# Altium footprint library micro-philips.PCBLIB: 60 footprints (part 3 of 5)
Each footprint in its own frame and in the unit in brackets; x right, y up, seen from the top. Pads: shape width x height; smd on the part's side, far side on the other; paste and mask are expansions set on the pad; w line width, h text height; cw(c..) or ccw(c..) is an arc to the next point about the centre after c.
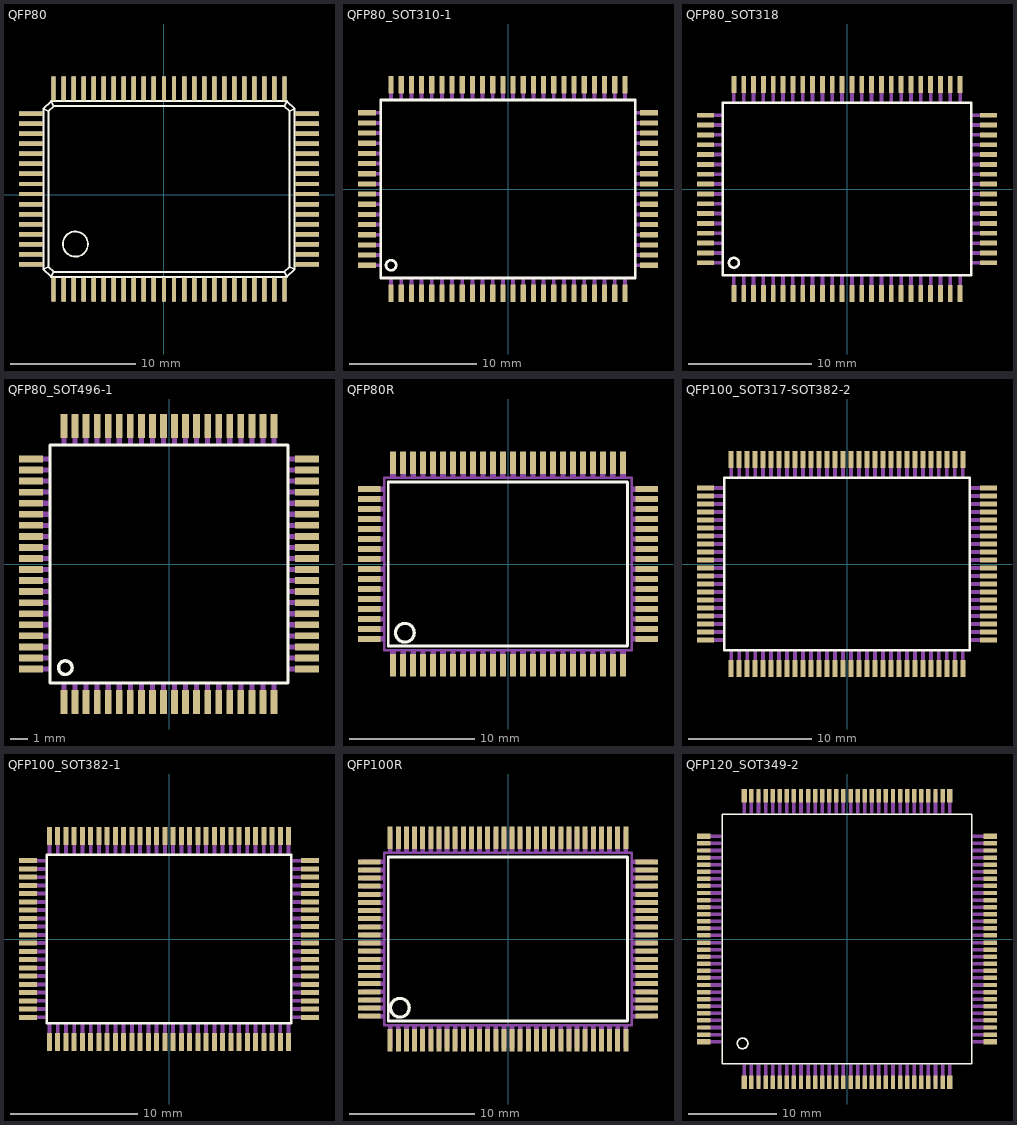
[diagram p2: the footprints below, top view; thin cyan lines are the x and y axes]

## QFP80 [mm]
pads (80):
  rect 0.35x1.9 smd: 1(-8.8,-7.53) 2(-8,-7.53) 3(-7.2,-7.53) 4(-6.4,-7.53) 5(-5.6,-7.53) 6(-4.8,-7.53) 7(-4,-7.53) 8(-3.2,-7.53) 9(-2.4,-7.53) 10(-1.6,-7.53) 11(-0.8,-7.53) 12(0,-7.53) 13(0.8,-7.53) 14(1.6,-7.53) 15(2.4,-7.53) 16(3.2,-7.53) 17(4,-7.53) 18(4.8,-7.53) 19(5.6,-7.53) 20(6.4,-7.53) 21(7.2,-7.53) 22(8,-7.53) 23(8.8,-7.53) 24(9.6,-7.53) 41(9.6,8.47) 42(8.8,8.47) 43(8,8.47) 44(7.2,8.47) 45(6.4,8.47) 46(5.6,8.47) 47(4.8,8.47) 48(4,8.47) 49(3.2,8.47) 50(2.4,8.47) 51(1.6,8.47) 52(0.8,8.47) 53(0,8.47) 54(-0.8,8.47) 55(-1.6,8.47) 56(-2.4,8.47) 57(-3.2,8.47) 58(-4,8.47) 59(-4.8,8.47) 60(-5.6,8.47) 61(-6.4,8.47) 62(-7.2,8.47) 63(-8,8.47) 64(-8.8,8.47)
  rect 1.9x0.35 smd: 25(11.4,-5.53) 26(11.4,-4.73) 27(11.4,-3.93) 28(11.4,-3.13) 29(11.4,-2.33) 30(11.4,-1.53) 31(11.4,-0.73) 32(11.4,0.07) 33(11.4,0.87) 34(11.4,1.67) 35(11.4,2.47) 36(11.4,3.27) 37(11.4,4.07) 38(11.4,4.87) 39(11.4,5.67) 40(11.4,6.47) 65(-10.6,6.47) 66(-10.6,5.67) 67(-10.6,4.87) 68(-10.6,4.07) 69(-10.6,3.27) 70(-10.6,2.47) 71(-10.6,1.67) 72(-10.6,0.87) 73(-10.6,0.07) 74(-10.6,-0.73) 75(-10.6,-1.53) 76(-10.6,-2.33) 77(-10.6,-3.13) 78(-10.6,-3.93) 79(-10.6,-4.73) 80(-10.6,-5.53)
Top Overlay:
  circle w0.152: c-7.06,-3.92 r1
  rectangle: -8.975,7.52 -8.625,9.42
  rectangle: 9.425,-8.48 9.775,-6.58
  rectangle: -8.175,7.52 -7.825,9.42
  rectangle: -7.375,7.52 -7.025,9.42
  rectangle: -6.575,7.52 -6.225,9.42
  rectangle: -5.775,7.52 -5.425,9.42
  rectangle: -4.975,7.52 -4.625,9.42
  rectangle: -4.175,7.52 -3.825,9.42
  rectangle: -3.375,7.52 -3.025,9.42
  rectangle: -2.575,7.52 -2.225,9.42
  rectangle: -1.775,7.52 -1.425,9.42
  rectangle: -0.975,7.52 -0.625,9.42
  rectangle: -0.175,7.52 0.175,9.42
  rectangle: 0.625,7.52 0.975,9.42
  rectangle: 1.425,7.52 1.775,9.42
  rectangle: 2.225,7.52 2.575,9.42
  rectangle: 3.025,7.52 3.375,9.42
  rectangle: 3.825,7.52 4.175,9.42
  rectangle: 4.625,7.52 4.975,9.42
  rectangle: 5.425,7.52 5.775,9.42
  rectangle: 6.225,7.52 6.575,9.42
  rectangle: 7.025,7.52 7.375,9.42
  rectangle: 7.825,7.52 8.175,9.42
  rectangle: 8.625,7.52 8.975,9.42
  rectangle: 9.425,7.52 9.775,9.42
  rectangle: -8.975,-8.48 -8.625,-6.58
  rectangle: -8.175,-8.48 -7.825,-6.58
  rectangle: -7.375,-8.48 -7.025,-6.58
  rectangle: -6.575,-8.48 -6.225,-6.58
  rectangle: -5.775,-8.48 -5.425,-6.58
  rectangle: -4.975,-8.48 -4.625,-6.58
  rectangle: -4.175,-8.48 -3.825,-6.58
  rectangle: -3.375,-8.48 -3.025,-6.58
  rectangle: -2.575,-8.48 -2.225,-6.58
  rectangle: -1.775,-8.48 -1.425,-6.58
  rectangle: -0.975,-8.48 -0.625,-6.58
  rectangle: -0.175,-8.48 0.175,-6.58
  rectangle: 0.625,-8.48 0.975,-6.58
  rectangle: 1.425,-8.48 1.775,-6.58
  rectangle: 2.225,-8.48 2.575,-6.58
  rectangle: 3.825,-8.48 4.175,-6.58
  rectangle: 3.025,-8.48 3.375,-6.58
  rectangle: 4.625,-8.48 4.975,-6.58
  rectangle: 5.425,-8.48 5.775,-6.58
  rectangle: 6.225,-8.48 6.575,-6.58
  rectangle: 7.025,-8.48 7.375,-6.58
  rectangle: 7.825,-8.48 8.175,-6.58
  rectangle: 8.625,-8.48 8.975,-6.58
  rectangle: 10.45,-0.105 12.35,0.245
  rectangle: -11.55,-5.705 -9.65,-5.355
  rectangle: 10.45,0.695 12.35,1.045
  rectangle: 10.45,1.495 12.35,1.845
  rectangle: 10.45,2.295 12.35,2.645
  rectangle: 10.45,3.095 12.35,3.445
  rectangle: 10.45,3.895 12.35,4.245
  rectangle: 10.45,4.695 12.35,5.045
  rectangle: 10.45,5.495 12.35,5.845
  rectangle: 10.45,6.295 12.35,6.645
  rectangle: 10.45,-0.905 12.35,-0.555
  rectangle: 10.45,-1.705 12.35,-1.355
  rectangle: 10.45,-2.505 12.35,-2.155
  rectangle: 10.45,-3.305 12.35,-2.955
  rectangle: 10.45,-4.105 12.35,-3.755
  rectangle: 10.45,-4.905 12.35,-4.555
  rectangle: 10.45,-5.705 12.35,-5.355
  rectangle: -11.55,6.295 -9.65,6.645
  rectangle: -11.55,5.495 -9.65,5.845
  rectangle: -11.55,4.695 -9.65,5.045
  rectangle: -11.55,3.895 -9.65,4.245
  rectangle: -11.55,3.095 -9.65,3.445
  rectangle: -11.55,2.295 -9.65,2.645
  rectangle: -11.55,1.495 -9.65,1.845
  rectangle: -11.55,0.695 -9.65,1.045
  rectangle: -11.55,-0.105 -9.65,0.245
  rectangle: -11.55,-0.905 -9.65,-0.555
  rectangle: -11.55,-1.705 -9.65,-1.355
  rectangle: -11.55,-2.505 -9.65,-2.155
  rectangle: -11.55,-3.305 -9.65,-2.955
  rectangle: -11.55,-4.105 -9.65,-3.755
  rectangle: -11.55,-4.905 -9.65,-4.555
  lines w0.152: -9.2,5.47 -9.2,5.67 ; -9.6,-5.93 -9,-6.53 ; -9.6,-5.93 -9.6,6.87 ; -9.6,-5.93 -9.2,-5.73 ; -9.6,6.87 -9,7.47 ; -9.6,6.87 -9.2,6.67 ; -9.2,-5.73 -8.8,-6.13 ; -9.2,-5.73 -9.2,5.67 ; -9.2,5.67 -9.2,6.67 ; -9.2,6.67 -8.8,7.07 ; -9,-6.53 9.8,-6.53 ; -9,-6.53 -8.8,-6.13 ; -9,7.47 9.8,7.47 ; -9,7.47 -8.8,7.07 ; -8.8,-6.13 9.6,-6.13 ; -8.8,7.07 9.6,7.07 ; 9.6,-6.13 10,-5.73 ; 9.6,-6.13 9.8,-6.53 ; 9.6,7.07 10,6.67 ; 9.6,7.07 9.8,7.47 ; 9.8,-6.53 10.4,-5.93 ; 9.8,7.47 10.4,6.87 ; 10,-5.73 10,6.67 ; 10,-5.73 10.4,-5.93 ; 10,6.67 10.4,6.87 ; 10.4,-5.93 10.4,6.87

## QFP80_SOT310-1 [mm]
pads (80):
  rect 0.4x1.4 smd: 1(-9.2,-8.2) 2(-8.4,-8.2) 3(-7.6,-8.2) 4(-6.8,-8.2) 5(-6,-8.2) 6(-5.2,-8.2) 7(-4.4,-8.2) 8(-3.6,-8.2) 9(-2.8,-8.2) 10(-2,-8.2) 11(-1.2,-8.2) 12(-0.4,-8.2) 13(0.4,-8.2) 14(1.2,-8.2) 15(2,-8.2) 16(2.8,-8.2) 17(3.6,-8.2) 18(4.4,-8.2) 19(5.2,-8.2) 20(6,-8.2) 21(6.8,-8.2) 22(7.6,-8.2) 23(8.4,-8.2) 24(9.2,-8.2) 41(9.2,8.2) 42(8.4,8.2) 43(7.6,8.2) 44(6.8,8.2) 45(6,8.2) 46(5.2,8.2) 47(4.4,8.2) 48(3.6,8.2) 49(2.8,8.2) 50(2,8.2) 51(1.2,8.2) 52(0.4,8.2) 53(-0.4,8.2) 54(-1.2,8.2) 55(-2,8.2) 56(-2.8,8.2) 57(-3.6,8.2) 58(-4.4,8.2) 59(-5.2,8.2) 60(-6,8.2) 61(-6.8,8.2) 62(-7.6,8.2) 63(-8.4,8.2) 64(-9.2,8.2)
  rect 1.4x0.4 smd: 25(11.1,-6) 26(11.1,-5.2) 27(11.1,-4.4) 28(11.1,-3.6) 29(11.1,-2.8) 30(11.1,-2) 31(11.1,-1.2) 32(11.1,-0.4) 33(11.1,0.4) 34(11.1,1.2) 35(11.1,2) 36(11.1,2.8) 37(11.1,3.6) 38(11.1,4.4) 39(11.1,5.2) 40(11.1,6) 65(-11.1,6) 66(-11.1,5.2) 67(-11.1,4.4) 68(-11.1,3.6) 69(-11.1,2.8) 70(-11.1,2) 71(-11.1,1.2) 72(-11.1,0.4) 73(-11.1,-0.4) 74(-11.1,-1.2) 75(-11.1,-2) 76(-11.1,-2.8) 77(-11.1,-3.6) 78(-11.1,-4.4) 79(-11.1,-5.2) 80(-11.1,-6)
Top Overlay:
  circle w0.203: c-9.2,-6 r0.4
  lines w0.203: -10,-7 10,-7 10,7 -10,7 -10,-7
Mechanical 16:
  rectangle: -9.35,-8.65 -9.05,-7.05
  rectangle: -8.55,-8.65 -8.25,-7.05
  rectangle: -7.75,-8.65 -7.45,-7.05
  rectangle: -6.95,-8.65 -6.65,-7.05
  rectangle: -6.15,-8.65 -5.85,-7.05
  rectangle: -5.35,-8.65 -5.05,-7.05
  rectangle: -4.55,-8.65 -4.25,-7.05
  rectangle: -3.75,-8.65 -3.45,-7.05
  rectangle: -2.95,-8.65 -2.65,-7.05
  rectangle: -2.15,-8.65 -1.85,-7.05
  rectangle: -1.35,-8.65 -1.05,-7.05
  rectangle: -0.55,-8.65 -0.25,-7.05
  rectangle: 0.25,-8.65 0.55,-7.05
  rectangle: 1.05,-8.65 1.35,-7.05
  rectangle: 1.85,-8.65 2.15,-7.05
  rectangle: 2.65,-8.65 2.95,-7.05
  rectangle: 3.45,-8.65 3.75,-7.05
  rectangle: 4.25,-8.65 4.55,-7.05
  rectangle: 5.05,-8.65 5.35,-7.05
  rectangle: 5.85,-8.65 6.15,-7.05
  rectangle: 6.65,-8.65 6.95,-7.05
  rectangle: 7.45,-8.65 7.75,-7.05
  rectangle: 8.25,-8.65 8.55,-7.05
  rectangle: 9.05,-8.65 9.35,-7.05
  rectangle: 9.95,-6.15 11.55,-5.85
  rectangle: 9.95,-5.35 11.55,-5.05
  rectangle: 9.95,-4.55 11.55,-4.25
  rectangle: 9.95,-3.75 11.55,-3.45
  rectangle: 9.95,-2.95 11.55,-2.65
  rectangle: 9.95,-2.15 11.55,-1.85
  rectangle: 9.95,-1.35 11.55,-1.05
  rectangle: 9.95,-0.55 11.55,-0.25
  rectangle: 9.95,0.25 11.55,0.55
  rectangle: 9.95,1.05 11.55,1.35
  rectangle: 9.95,1.85 11.55,2.15
  rectangle: 9.95,2.65 11.55,2.95
  rectangle: 9.95,3.45 11.55,3.75
  rectangle: 9.95,4.25 11.55,4.55
  rectangle: 9.95,5.05 11.55,5.35
  rectangle: 9.95,5.85 11.55,6.15
  rectangle: 9.05,7.05 9.35,8.65
  rectangle: 8.25,7.05 8.55,8.65
  rectangle: 7.45,7.05 7.75,8.65
  rectangle: 6.65,7.05 6.95,8.65
  rectangle: 5.85,7.05 6.15,8.65
  rectangle: 5.05,7.05 5.35,8.65
  rectangle: 4.25,7.05 4.55,8.65
  rectangle: 3.45,7.05 3.75,8.65
  rectangle: 2.65,7.05 2.95,8.65
  rectangle: 1.85,7.05 2.15,8.65
  rectangle: 1.05,7.05 1.35,8.65
  rectangle: 0.25,7.05 0.55,8.65
  rectangle: -0.55,7.05 -0.25,8.65
  rectangle: -1.35,7.05 -1.05,8.65
  rectangle: -2.15,7.05 -1.85,8.65
  rectangle: -2.95,7.05 -2.65,8.65
  rectangle: -3.75,7.05 -3.45,8.65
  rectangle: -4.55,7.05 -4.25,8.65
  rectangle: -5.35,7.05 -5.05,8.65
  rectangle: -6.15,7.05 -5.85,8.65
  rectangle: -6.95,7.05 -6.65,8.65
  rectangle: -7.75,7.05 -7.45,8.65
  rectangle: -8.55,7.05 -8.25,8.65
  rectangle: -9.35,7.05 -9.05,8.65
  rectangle: -11.55,5.85 -9.95,6.15
  rectangle: -11.55,5.05 -9.95,5.35
  rectangle: -11.55,4.25 -9.95,4.55
  rectangle: -11.55,3.45 -9.95,3.75
  rectangle: -11.55,2.65 -9.95,2.95
  rectangle: -11.55,1.85 -9.95,2.15
  rectangle: -11.55,1.05 -9.95,1.35
  rectangle: -11.55,0.25 -9.95,0.55
  rectangle: -11.55,-0.55 -9.95,-0.25
  rectangle: -11.55,-1.35 -9.95,-1.05
  rectangle: -11.55,-2.15 -9.95,-1.85
  rectangle: -11.55,-2.95 -9.95,-2.65
  rectangle: -11.55,-3.75 -9.95,-3.45
  rectangle: -11.55,-4.55 -9.95,-4.25
  rectangle: -11.55,-5.35 -9.95,-5.05
  rectangle: -11.55,-6.15 -9.95,-5.85

## QFP80_SOT318 [mm]
pads (80):
  rect 0.4x1.4 smd: 1(-9.2,-8.5) 2(-8.4,-8.5) 3(-7.6,-8.5) 4(-6.8,-8.5) 5(-6,-8.5) 6(-5.2,-8.5) 7(-4.4,-8.5) 8(-3.6,-8.5) 9(-2.8,-8.5) 10(-2,-8.5) 11(-1.2,-8.5) 12(-0.4,-8.5) 13(0.4,-8.5) 14(1.2,-8.5) 15(2,-8.5) 16(2.8,-8.5) 17(3.6,-8.5) 18(4.4,-8.5) 19(5.2,-8.5) 20(6,-8.5) 21(6.8,-8.5) 22(7.6,-8.5) 23(8.4,-8.5) 24(9.2,-8.5) 41(9.2,8.5) 42(8.4,8.5) 43(7.6,8.5) 44(6.8,8.5) 45(6,8.5) 46(5.2,8.5) 47(4.4,8.5) 48(3.6,8.5) 49(2.8,8.5) 50(2,8.5) 51(1.2,8.5) 52(0.4,8.5) 53(-0.4,8.5) 54(-1.2,8.5) 55(-2,8.5) 56(-2.8,8.5) 57(-3.6,8.5) 58(-4.4,8.5) 59(-5.2,8.5) 60(-6,8.5) 61(-6.8,8.5) 62(-7.6,8.5) 63(-8.4,8.5) 64(-9.2,8.5)
  rect 1.4x0.4 smd: 25(11.5,-6) 26(11.5,-5.2) 27(11.5,-4.4) 28(11.5,-3.6) 29(11.5,-2.8) 30(11.5,-2) 31(11.5,-1.2) 32(11.5,-0.4) 33(11.5,0.4) 34(11.5,1.2) 35(11.5,2) 36(11.5,2.8) 37(11.5,3.6) 38(11.5,4.4) 39(11.5,5.2) 40(11.5,6) 65(-11.5,6) 66(-11.5,5.2) 67(-11.5,4.4) 68(-11.5,3.6) 69(-11.5,2.8) 70(-11.5,2) 71(-11.5,1.2) 72(-11.5,0.4) 73(-11.5,-0.4) 74(-11.5,-1.2) 75(-11.5,-2) 76(-11.5,-2.8) 77(-11.5,-3.6) 78(-11.5,-4.4) 79(-11.5,-5.2) 80(-11.5,-6)
Top Overlay:
  circle w0.203: c-9.2,-6 r0.4
  lines w0.203: -10.1,-7 10.1,-7 10.1,7 -10.1,7 -10.1,-7
Mechanical 16:
  rectangle: -9.35,-8.65 -9.05,-7.05
  rectangle: -8.55,-8.65 -8.25,-7.05
  rectangle: -7.75,-8.65 -7.45,-7.05
  rectangle: -6.95,-8.65 -6.65,-7.05
  rectangle: -6.15,-8.65 -5.85,-7.05
  rectangle: -5.35,-8.65 -5.05,-7.05
  rectangle: -4.55,-8.65 -4.25,-7.05
  rectangle: -3.75,-8.65 -3.45,-7.05
  rectangle: -2.95,-8.65 -2.65,-7.05
  rectangle: -2.15,-8.65 -1.85,-7.05
  rectangle: -1.35,-8.65 -1.05,-7.05
  rectangle: -0.55,-8.65 -0.25,-7.05
  rectangle: 0.25,-8.65 0.55,-7.05
  rectangle: 1.05,-8.65 1.35,-7.05
  rectangle: 1.85,-8.65 2.15,-7.05
  rectangle: 2.65,-8.65 2.95,-7.05
  rectangle: 3.45,-8.65 3.75,-7.05
  rectangle: 4.25,-8.65 4.55,-7.05
  rectangle: 5.05,-8.65 5.35,-7.05
  rectangle: 5.85,-8.65 6.15,-7.05
  rectangle: 6.65,-8.65 6.95,-7.05
  rectangle: 7.45,-8.65 7.75,-7.05
  rectangle: 8.25,-8.65 8.55,-7.05
  rectangle: 9.05,-8.65 9.35,-7.05
  rectangle: 10.05,-6.15 11.65,-5.85
  rectangle: 10.05,-5.35 11.65,-5.05
  rectangle: 10.05,-4.55 11.65,-4.25
  rectangle: 10.05,-3.75 11.65,-3.45
  rectangle: 10.05,-2.95 11.65,-2.65
  rectangle: 10.05,-2.15 11.65,-1.85
  rectangle: 10.05,-1.35 11.65,-1.05
  rectangle: 10.05,-0.55 11.65,-0.25
  rectangle: 10.05,0.25 11.65,0.55
  rectangle: 10.05,1.05 11.65,1.35
  rectangle: 10.05,1.85 11.65,2.15
  rectangle: 10.05,2.65 11.65,2.95
  rectangle: 10.05,3.45 11.65,3.75
  rectangle: 10.05,4.25 11.65,4.55
  rectangle: 10.05,5.05 11.65,5.35
  rectangle: 10.05,5.85 11.65,6.15
  rectangle: 9.05,7.05 9.35,8.65
  rectangle: 8.25,7.05 8.55,8.65
  rectangle: 7.45,7.05 7.75,8.65
  rectangle: 6.65,7.05 6.95,8.65
  rectangle: 5.85,7.05 6.15,8.65
  rectangle: 5.05,7.05 5.35,8.65
  rectangle: 4.25,7.05 4.55,8.65
  rectangle: 3.45,7.05 3.75,8.65
  rectangle: 2.65,7.05 2.95,8.65
  rectangle: 1.85,7.05 2.15,8.65
  rectangle: 1.05,7.05 1.35,8.65
  rectangle: 0.25,7.05 0.55,8.65
  rectangle: -0.55,7.05 -0.25,8.65
  rectangle: -1.35,7.05 -1.05,8.65
  rectangle: -2.15,7.05 -1.85,8.65
  rectangle: -2.95,7.05 -2.65,8.65
  rectangle: -3.75,7.05 -3.45,8.65
  rectangle: -4.55,7.05 -4.25,8.65
  rectangle: -5.35,7.05 -5.05,8.65
  rectangle: -6.15,7.05 -5.85,8.65
  rectangle: -6.95,7.05 -6.65,8.65
  rectangle: -7.75,7.05 -7.45,8.65
  rectangle: -8.55,7.05 -8.25,8.65
  rectangle: -9.35,7.05 -9.05,8.65
  rectangle: -11.65,5.85 -10.05,6.15
  rectangle: -11.65,5.05 -10.05,5.35
  rectangle: -11.65,4.25 -10.05,4.55
  rectangle: -11.65,3.45 -10.05,3.75
  rectangle: -11.65,2.65 -10.05,2.95
  rectangle: -11.65,1.85 -10.05,2.15
  rectangle: -11.65,1.05 -10.05,1.35
  rectangle: -11.65,0.25 -10.05,0.55
  rectangle: -11.65,-0.55 -10.05,-0.25
  rectangle: -11.65,-1.35 -10.05,-1.05
  rectangle: -11.65,-2.15 -10.05,-1.85
  rectangle: -11.65,-2.95 -10.05,-2.65
  rectangle: -11.65,-3.75 -10.05,-3.45
  rectangle: -11.65,-4.55 -10.05,-4.25
  rectangle: -11.65,-5.35 -10.05,-5.05
  rectangle: -11.65,-6.15 -10.05,-5.85

## QFP80_SOT496-1 [mm]
pads (80):
  rect 0.4x1.4 smd: 1(-6.175,-8.125) 2(-5.525,-8.125) 3(-4.875,-8.125) 4(-4.225,-8.125) 5(-3.575,-8.125) 6(-2.925,-8.125) 7(-2.275,-8.125) 8(-1.625,-8.125) 9(-0.975,-8.125) 10(-0.325,-8.125) 11(0.325,-8.125) 12(0.975,-8.125) 13(1.625,-8.125) 14(2.275,-8.125) 15(2.925,-8.125) 16(3.575,-8.125) 17(4.225,-8.125) 18(4.875,-8.125) 19(5.525,-8.125) 20(6.175,-8.125) 41(6.175,8.125) 42(5.525,8.125) 43(4.875,8.125) 44(4.225,8.125) 45(3.575,8.125) 46(2.925,8.125) 47(2.275,8.125) 48(1.625,8.125) 49(0.975,8.125) 50(0.325,8.125) 51(-0.325,8.125) 52(-0.975,8.125) 53(-1.625,8.125) 54(-2.275,8.125) 55(-2.925,8.125) 56(-3.575,8.125) 57(-4.225,8.125) 58(-4.875,8.125) 59(-5.525,8.125) 60(-6.175,8.125)
  rect 1.4x0.4 smd: 21(8.125,-6.175) 22(8.125,-5.525) 23(8.125,-4.875) 24(8.125,-4.225) 25(8.125,-3.575) 26(8.125,-2.925) 27(8.125,-2.275) 28(8.125,-1.625) 29(8.125,-0.975) 30(8.125,-0.325) 31(8.125,0.325) 32(8.125,0.975) 33(8.125,1.625) 34(8.125,2.275) 35(8.125,2.925) 36(8.125,3.575) 37(8.125,4.225) 38(8.125,4.875) 39(8.125,5.525) 40(8.125,6.175) 61(-8.125,6.175) 62(-8.125,5.525) 63(-8.125,4.875) 64(-8.125,4.225) 65(-8.125,3.575) 66(-8.125,2.925) 67(-8.125,2.275) 68(-8.125,1.625) 69(-8.125,0.975) 70(-8.125,0.325) 71(-8.125,-0.325) 72(-8.125,-0.975) 73(-8.125,-1.625) 74(-8.125,-2.275) 75(-8.125,-2.925) 76(-8.125,-3.575) 77(-8.125,-4.225) 78(-8.125,-4.875) 79(-8.125,-5.525) 80(-8.125,-6.175)
Top Overlay:
  circle w0.203: c-6.1,-6.1 r0.4
  lines w0.203: -7,-7 7,-7 7,7 -7,7 -7,-7
Mechanical 16:
  rectangle: -6.325,-8.575 -6.025,-6.975
  rectangle: -5.675,-8.575 -5.375,-6.975
  rectangle: -5.025,-8.575 -4.725,-6.975
  rectangle: -4.375,-8.575 -4.075,-6.975
  rectangle: -3.725,-8.575 -3.425,-6.975
  rectangle: -3.075,-8.575 -2.775,-6.975
  rectangle: -2.425,-8.575 -2.125,-6.975
  rectangle: -1.775,-8.575 -1.475,-6.975
  rectangle: -1.125,-8.575 -0.825,-6.975
  rectangle: -0.475,-8.575 -0.175,-6.975
  rectangle: 0.175,-8.575 0.475,-6.975
  rectangle: 0.825,-8.575 1.125,-6.975
  rectangle: 1.475,-8.575 1.775,-6.975
  rectangle: 2.125,-8.575 2.425,-6.975
  rectangle: 2.775,-8.575 3.075,-6.975
  rectangle: 3.425,-8.575 3.725,-6.975
  rectangle: 4.075,-8.575 4.375,-6.975
  rectangle: 4.725,-8.575 5.025,-6.975
  rectangle: 5.375,-8.575 5.675,-6.975
  rectangle: 6.025,-8.575 6.325,-6.975
  rectangle: 6.975,-6.325 8.575,-6.025
  rectangle: 6.975,-5.675 8.575,-5.375
  rectangle: 6.975,-5.025 8.575,-4.725
  rectangle: 6.975,-4.375 8.575,-4.075
  rectangle: 6.975,-3.725 8.575,-3.425
  rectangle: 6.975,-3.075 8.575,-2.775
  rectangle: 6.975,-2.425 8.575,-2.125
  rectangle: 6.975,-1.775 8.575,-1.475
  rectangle: 6.975,-1.125 8.575,-0.825
  rectangle: 6.975,-0.475 8.575,-0.175
  rectangle: 6.975,0.175 8.575,0.475
  rectangle: 6.975,0.825 8.575,1.125
  rectangle: 6.975,1.475 8.575,1.775
  rectangle: 6.975,2.125 8.575,2.425
  rectangle: 6.975,2.775 8.575,3.075
  rectangle: 6.975,3.425 8.575,3.725
  rectangle: 6.975,4.075 8.575,4.375
  rectangle: 6.975,4.725 8.575,5.025
  rectangle: 6.975,5.375 8.575,5.675
  rectangle: 6.975,6.025 8.575,6.325
  rectangle: 6.025,6.975 6.325,8.575
  rectangle: 5.375,6.975 5.675,8.575
  rectangle: 4.725,6.975 5.025,8.575
  rectangle: 4.075,6.975 4.375,8.575
  rectangle: 3.425,6.975 3.725,8.575
  rectangle: 2.775,6.975 3.075,8.575
  rectangle: 2.125,6.975 2.425,8.575
  rectangle: 1.475,6.975 1.775,8.575
  rectangle: 0.825,6.975 1.125,8.575
  rectangle: 0.175,6.975 0.475,8.575
  rectangle: -0.475,6.975 -0.175,8.575
  rectangle: -1.125,6.975 -0.825,8.575
  rectangle: -1.775,6.975 -1.475,8.575
  rectangle: -2.425,6.975 -2.125,8.575
  rectangle: -3.075,6.975 -2.775,8.575
  rectangle: -3.725,6.975 -3.425,8.575
  rectangle: -4.375,6.975 -4.075,8.575
  rectangle: -5.025,6.975 -4.725,8.575
  rectangle: -5.675,6.975 -5.375,8.575
  rectangle: -6.325,6.975 -6.025,8.575
  rectangle: -8.575,6.025 -6.975,6.325
  rectangle: -8.575,5.375 -6.975,5.675
  rectangle: -8.575,4.725 -6.975,5.025
  rectangle: -8.575,4.075 -6.975,4.375
  rectangle: -8.575,3.425 -6.975,3.725
  rectangle: -8.575,2.775 -6.975,3.075
  rectangle: -8.575,2.125 -6.975,2.425
  rectangle: -8.575,1.475 -6.975,1.775
  rectangle: -8.575,0.825 -6.975,1.125
  rectangle: -8.575,0.175 -6.975,0.475
  rectangle: -8.575,-0.475 -6.975,-0.175
  rectangle: -8.575,-1.125 -6.975,-0.825
  rectangle: -8.575,-1.775 -6.975,-1.475
  rectangle: -8.575,-2.425 -6.975,-2.125
  rectangle: -8.575,-3.075 -6.975,-2.775
  rectangle: -8.575,-3.725 -6.975,-3.425
  rectangle: -8.575,-4.375 -6.975,-4.075
  rectangle: -8.575,-5.025 -6.975,-4.725
  rectangle: -8.575,-5.675 -6.975,-5.375
  rectangle: -8.575,-6.325 -6.975,-6.025

## QFP80R [mm]
pads (80):
  rect 0.5x1.8 smd: 1(-9.2,-8.1) 2(-8.4,-8.1) 3(-7.6,-8.1) 4(-6.8,-8.1) 5(-6,-8.1) 6(-5.2,-8.1) 7(-4.4,-8.1) 8(-3.6,-8.1) 9(-2.8,-8.1) 10(-2,-8.1) 11(-1.2,-8.1) 12(-0.4,-8.1) 13(0.4,-8.1) 14(1.2,-8.1) 15(2,-8.1) 16(2.8,-8.1) 17(3.6,-8.1) 18(4.4,-8.1) 19(5.2,-8.1) 20(6,-8.1) 21(6.8,-8.1) 22(7.6,-8.1) 23(8.4,-8.1) 24(9.2,-8.1) 41(9.2,8.1) 42(8.4,8.1) 43(7.6,8.1) 44(6.8,8.1) 45(6,8.1) 46(5.2,8.1) 47(4.4,8.1) 48(3.6,8.1) 49(2.8,8.1) 50(2,8.1) 51(1.2,8.1) 52(0.4,8.1) 53(-0.4,8.1) 54(-1.2,8.1) 55(-2,8.1) 56(-2.8,8.1) 57(-3.6,8.1) 58(-4.4,8.1) 59(-5.2,8.1) 60(-6,8.1) 61(-6.8,8.1) 62(-7.6,8.1) 63(-8.4,8.1) 64(-9.2,8.1)
  rect 1.8x0.5 smd: 25(11.1,-6) 26(11.1,-5.2) 27(11.1,-4.4) 28(11.1,-3.6) 29(11.1,-2.8) 30(11.1,-2) 31(11.1,-1.2) 32(11.1,-0.4) 33(11.1,0.4) 34(11.1,1.2) 35(11.1,2) 36(11.1,2.8) 37(11.1,3.6) 38(11.1,4.4) 39(11.1,5.2) 40(11.1,6) 65(-11.1,6) 66(-11.1,5.2) 67(-11.1,4.4) 68(-11.1,3.6) 69(-11.1,2.8) 70(-11.1,2) 71(-11.1,1.2) 72(-11.1,0.4) 73(-11.1,-0.4) 74(-11.1,-1.2) 75(-11.1,-2) 76(-11.1,-2.8) 77(-11.1,-3.6) 78(-11.1,-4.4) 79(-11.1,-5.2) 80(-11.1,-6)
Top Overlay:
  circle w0.254: c-8.25,-5.5 r0.75
  lines w0.203: -9.57,-6.56 9.56,-6.56 9.56,6.56 -9.57,6.56 -9.57,-6.56
Mechanical 16:
  rectangle: -9.42,-8.72 -8.98,-6.95
  rectangle: 9.95,-6.22 11.72,-5.78
  rectangle: -8.62,-8.72 -8.18,-6.95
  rectangle: -7.82,-8.72 -7.38,-6.95
  rectangle: -7.02,-8.72 -6.58,-6.95
  rectangle: -6.22,-8.72 -5.78,-6.95
  rectangle: -5.42,-8.72 -4.98,-6.95
  rectangle: -4.62,-8.72 -4.18,-6.95
  rectangle: -3.82,-8.72 -3.38,-6.95
  rectangle: -3.02,-8.72 -2.58,-6.95
  rectangle: -2.22,-8.72 -1.78,-6.95
  rectangle: -1.42,-8.72 -0.98,-6.95
  rectangle: -0.62,-8.72 -0.18,-6.95
  rectangle: 0.18,-8.72 0.62,-6.95
  rectangle: 0.98,-8.72 1.42,-6.95
  rectangle: 1.78,-8.72 2.22,-6.95
  rectangle: 2.58,-8.72 3.02,-6.95
  rectangle: 3.38,-8.72 3.82,-6.95
  rectangle: 4.18,-8.72 4.62,-6.95
  rectangle: 4.98,-8.72 5.42,-6.95
  rectangle: 5.78,-8.72 6.22,-6.95
  rectangle: 6.58,-8.72 7.02,-6.95
  rectangle: 7.38,-8.72 7.82,-6.95
  rectangle: 8.18,-8.72 8.62,-6.95
  rectangle: 8.98,-8.72 9.42,-6.95
  rectangle: 9.95,-5.42 11.72,-4.98
  rectangle: 9.95,-4.62 11.72,-4.18
  rectangle: 9.95,-3.82 11.72,-3.38
  rectangle: 9.95,-3.02 11.72,-2.58
  rectangle: 9.95,-2.22 11.72,-1.78
  rectangle: 9.95,-1.42 11.72,-0.98
  rectangle: 9.95,-0.62 11.72,-0.18
  rectangle: 9.95,0.18 11.72,0.62
  rectangle: 9.95,0.98 11.72,1.42
  rectangle: 9.95,1.78 11.72,2.22
  rectangle: 9.95,2.58 11.72,3.02
  rectangle: 9.95,3.38 11.72,3.82
  rectangle: 9.95,4.18 11.72,4.62
  rectangle: 9.95,4.98 11.72,5.42
  rectangle: 9.95,5.78 11.72,6.22
  rectangle: 8.98,6.95 9.42,8.72
  rectangle: 8.18,6.95 8.62,8.72
  rectangle: 7.38,6.95 7.82,8.72
  rectangle: 6.58,6.95 7.02,8.72
  rectangle: 5.78,6.95 6.22,8.72
  rectangle: 4.98,6.95 5.42,8.72
  rectangle: 4.18,6.95 4.62,8.72
  rectangle: 3.38,6.95 3.82,8.72
  rectangle: 2.58,6.95 3.02,8.72
  rectangle: 1.78,6.95 2.22,8.72
  rectangle: 0.98,6.95 1.42,8.72
  rectangle: 0.18,6.95 0.62,8.72
  rectangle: -0.62,6.95 -0.18,8.72
  rectangle: -1.42,6.95 -0.98,8.72
  rectangle: -2.22,6.95 -1.78,8.72
  rectangle: -3.02,6.95 -2.58,8.72
  rectangle: -3.82,6.95 -3.38,8.72
  rectangle: -4.62,6.95 -4.18,8.72
  rectangle: -5.42,6.95 -4.98,8.72
  rectangle: -6.22,6.95 -5.78,8.72
  rectangle: -7.02,6.95 -6.58,8.72
  rectangle: -7.82,6.95 -7.38,8.72
  rectangle: -8.62,6.95 -8.18,8.72
  rectangle: -9.42,6.95 -8.98,8.72
  rectangle: -11.72,5.78 -9.95,6.22
  rectangle: -11.72,4.98 -9.95,5.42
  rectangle: -11.72,4.18 -9.95,4.62
  rectangle: -11.72,3.38 -9.95,3.82
  rectangle: -11.72,2.58 -9.95,3.02
  rectangle: -11.72,1.78 -9.95,2.22
  rectangle: -11.72,0.98 -9.95,1.42
  rectangle: -11.72,0.18 -9.95,0.62
  rectangle: -11.72,-0.62 -9.95,-0.18
  rectangle: -11.72,-1.42 -9.95,-0.98
  rectangle: -11.72,-2.22 -9.95,-1.78
  rectangle: -11.72,-3.02 -9.95,-2.58
  rectangle: -11.72,-3.82 -9.95,-3.38
  rectangle: -11.72,-4.62 -9.95,-4.18
  rectangle: -11.72,-5.42 -9.95,-4.98
  rectangle: -11.72,-6.22 -9.95,-5.78
  lines w0.203: -9.9,-6.9 9.9,-6.9 9.9,6.9 -9.9,6.9 -9.9,-6.9

## QFP100_SOT317-SOT382-2 [mm]
pads (100):
  rect 0.4x1.4 smd: 1(-9.425,-8.5) 2(-8.775,-8.5) 3(-8.125,-8.5) 4(-7.475,-8.5) 5(-6.825,-8.5) 6(-6.175,-8.5) 7(-5.525,-8.5) 8(-4.875,-8.5) 9(-4.225,-8.5) 10(-3.575,-8.5) 11(-2.925,-8.5) 12(-2.275,-8.5) 13(-1.625,-8.5) 14(-0.975,-8.5) 15(-0.325,-8.5) 16(0.325,-8.5) 17(0.975,-8.5) 18(1.625,-8.5) 19(2.275,-8.5) 20(2.925,-8.5) 21(3.575,-8.5) 22(4.225,-8.5) 23(4.875,-8.5) 24(5.525,-8.5) 25(6.175,-8.5) 26(6.825,-8.5) 27(7.475,-8.5) 28(8.125,-8.5) 29(8.775,-8.5) 30(9.425,-8.5) 51(9.425,8.5) 52(8.775,8.5) 53(8.125,8.5) 54(7.475,8.5) 55(6.825,8.5) 56(6.175,8.5) 57(5.525,8.5) 58(4.875,8.5) 59(4.225,8.5) 60(3.575,8.5) 61(2.925,8.5) 62(2.275,8.5) 63(1.625,8.5) 64(0.975,8.5) 65(0.325,8.5) 66(-0.325,8.5) 67(-0.975,8.5) 68(-1.625,8.5) 69(-2.275,8.5) 70(-2.925,8.5) 71(-3.575,8.5) 72(-4.225,8.5) 73(-4.875,8.5) 74(-5.525,8.5) 75(-6.175,8.5) 76(-6.825,8.5) 77(-7.475,8.5) 78(-8.125,8.5) 79(-8.775,8.5) 80(-9.425,8.5)
  rect 1.4x0.4 smd: 31(11.5,-6.175) 32(11.5,-5.525) 33(11.5,-4.875) 34(11.5,-4.225) 35(11.5,-3.575) 36(11.5,-2.925) 37(11.5,-2.275) 38(11.5,-1.625) 39(11.5,-0.975) 40(11.5,-0.325) 41(11.5,0.325) 42(11.5,0.975) 43(11.5,1.625) 44(11.5,2.275) 45(11.5,2.925) 46(11.5,3.575) 47(11.5,4.225) 48(11.5,4.875) 49(11.5,5.525) 50(11.5,6.175) 81(-11.5,6.175) 82(-11.5,5.525) 83(-11.5,4.875) 84(-11.5,4.225) 85(-11.5,3.575) 86(-11.5,2.925) 87(-11.5,2.275) 88(-11.5,1.625) 89(-11.5,0.975) 90(-11.5,0.325) 91(-11.5,-0.325) 92(-11.5,-0.975) 93(-11.5,-1.625) 94(-11.5,-2.275) 95(-11.5,-2.925) 96(-11.5,-3.575) 97(-11.5,-4.225) 98(-11.5,-4.875) 99(-11.5,-5.525) 100(-11.5,-6.175)
Top Overlay:
  lines w0.203: -10,-7 10,-7 10,7 -10,7 -10,-7
Mechanical 16:
  rectangle: -9.575,-8.65 -9.275,-7.05
  rectangle: -8.925,-8.65 -8.625,-7.05
  rectangle: -8.275,-8.65 -7.975,-7.05
  rectangle: -7.625,-8.65 -7.325,-7.05
  rectangle: -6.975,-8.65 -6.675,-7.05
  rectangle: -6.325,-8.65 -6.025,-7.05
  rectangle: -5.675,-8.65 -5.375,-7.05
  rectangle: -5.025,-8.65 -4.725,-7.05
  rectangle: -4.375,-8.65 -4.075,-7.05
  rectangle: -3.725,-8.65 -3.425,-7.05
  rectangle: -3.075,-8.65 -2.775,-7.05
  rectangle: -2.425,-8.65 -2.125,-7.05
  rectangle: -1.775,-8.65 -1.475,-7.05
  rectangle: -1.125,-8.65 -0.825,-7.05
  rectangle: -0.475,-8.65 -0.175,-7.05
  rectangle: 0.175,-8.65 0.475,-7.05
  rectangle: 0.825,-8.65 1.125,-7.05
  rectangle: 1.475,-8.65 1.775,-7.05
  rectangle: 2.125,-8.65 2.425,-7.05
  rectangle: 2.775,-8.65 3.075,-7.05
  rectangle: 3.425,-8.65 3.725,-7.05
  rectangle: 4.075,-8.65 4.375,-7.05
  rectangle: 4.725,-8.65 5.025,-7.05
  rectangle: 5.375,-8.65 5.675,-7.05
  rectangle: 6.025,-8.65 6.325,-7.05
  rectangle: 6.675,-8.65 6.975,-7.05
  rectangle: 7.325,-8.65 7.625,-7.05
  rectangle: 7.975,-8.65 8.275,-7.05
  rectangle: 8.625,-8.65 8.925,-7.05
  rectangle: 9.275,-8.65 9.575,-7.05
  rectangle: 10.1,-6.325 11.7,-6.025
  rectangle: 10.1,-5.675 11.7,-5.375
  rectangle: 10.1,-5.025 11.7,-4.725
  rectangle: 10.1,-4.375 11.7,-4.075
  rectangle: 10.1,-3.725 11.7,-3.425
  rectangle: 10.1,-3.075 11.7,-2.775
  rectangle: 10.1,-2.425 11.7,-2.125
  rectangle: 10.1,-1.775 11.7,-1.475
  rectangle: 10.1,-1.125 11.7,-0.825
  rectangle: 10.1,-0.475 11.7,-0.175
  rectangle: 10.1,0.175 11.7,0.475
  rectangle: 10.1,0.825 11.7,1.125
  rectangle: 10.1,1.475 11.7,1.775
  rectangle: 10.1,2.125 11.7,2.425
  rectangle: 10.1,2.775 11.7,3.075
  rectangle: 10.1,3.425 11.7,3.725
  rectangle: 10.1,4.075 11.7,4.375
  rectangle: 10.1,4.725 11.7,5.025
  rectangle: 10.1,5.375 11.7,5.675
  rectangle: 10.1,6.025 11.7,6.325
  rectangle: 9.275,7.05 9.575,8.65
  rectangle: 8.625,7.05 8.925,8.65
  rectangle: 7.975,7.05 8.275,8.65
  rectangle: 7.325,7.05 7.625,8.65
  rectangle: 6.675,7.05 6.975,8.65
  rectangle: 6.025,7.05 6.325,8.65
  rectangle: 5.375,7.05 5.675,8.65
  rectangle: 4.725,7.05 5.025,8.65
  rectangle: 4.075,7.05 4.375,8.65
  rectangle: 3.425,7.05 3.725,8.65
  rectangle: 2.775,7.05 3.075,8.65
  rectangle: 2.125,7.05 2.425,8.65
  rectangle: 1.475,7.05 1.775,8.65
  rectangle: 0.825,7.05 1.125,8.65
  rectangle: 0.175,7.05 0.475,8.65
  rectangle: -0.475,7.05 -0.175,8.65
  rectangle: -1.125,7.05 -0.825,8.65
  rectangle: -1.775,7.05 -1.475,8.65
  rectangle: -2.425,7.05 -2.125,8.65
  rectangle: -3.075,7.05 -2.775,8.65
  rectangle: -3.725,7.05 -3.425,8.65
  rectangle: -4.375,7.05 -4.075,8.65
  rectangle: -5.025,7.05 -4.725,8.65
  rectangle: -5.675,7.05 -5.375,8.65
  rectangle: -6.325,7.05 -6.025,8.65
  rectangle: -6.975,7.05 -6.675,8.65
  rectangle: -7.625,7.05 -7.325,8.65
  rectangle: -8.275,7.05 -7.975,8.65
  rectangle: -8.925,7.05 -8.625,8.65
  rectangle: -9.575,7.05 -9.275,8.65
  rectangle: -11.7,6.025 -10.1,6.325
  rectangle: -11.7,5.375 -10.1,5.675
  rectangle: -11.7,4.725 -10.1,5.025
  rectangle: -11.7,4.075 -10.1,4.375
  rectangle: -11.7,3.425 -10.1,3.725
  rectangle: -11.7,2.775 -10.1,3.075
  rectangle: -11.7,2.125 -10.1,2.425
  rectangle: -11.7,1.475 -10.1,1.775
  rectangle: -11.7,0.825 -10.1,1.125
  rectangle: -11.7,0.175 -10.1,0.475
  rectangle: -11.7,-0.475 -10.1,-0.175
  rectangle: -11.7,-1.125 -10.1,-0.825
  rectangle: -11.7,-1.775 -10.1,-1.475
  rectangle: -11.7,-2.425 -10.1,-2.125
  rectangle: -11.7,-3.075 -10.1,-2.775
  rectangle: -11.7,-3.725 -10.1,-3.425
  rectangle: -11.7,-4.375 -10.1,-4.075
  rectangle: -11.7,-5.025 -10.1,-4.725
  rectangle: -11.7,-5.675 -10.1,-5.375
  rectangle: -11.7,-6.325 -10.1,-6.025

## QFP100_SOT382-1 [mm]
pads (100):
  rect 0.4x1.4 smd: 1(-9.425,-8.125) 2(-8.775,-8.125) 3(-8.125,-8.125) 4(-7.475,-8.125) 5(-6.825,-8.125) 6(-6.175,-8.125) 7(-5.525,-8.125) 8(-4.875,-8.125) 9(-4.225,-8.125) 10(-3.575,-8.125) 11(-2.925,-8.125) 12(-2.275,-8.125) 13(-1.625,-8.125) 14(-0.975,-8.125) 15(-0.325,-8.125) 16(0.325,-8.125) 17(0.975,-8.125) 18(1.625,-8.125) 19(2.275,-8.125) 20(2.925,-8.125) 21(3.575,-8.125) 22(4.225,-8.125) 23(4.875,-8.125) 24(5.525,-8.125) 25(6.175,-8.125) 26(6.825,-8.125) 27(7.475,-8.125) 28(8.125,-8.125) 29(8.775,-8.125) 30(9.425,-8.125) 51(9.425,8.125) 52(8.775,8.125) 53(8.125,8.125) 54(7.475,8.125) 55(6.825,8.125) 56(6.175,8.125) 57(5.525,8.125) 58(4.875,8.125) 59(4.225,8.125) 60(3.575,8.125) 61(2.925,8.125) 62(2.275,8.125) 63(1.625,8.125) 64(0.975,8.125) 65(0.325,8.125) 66(-0.325,8.125) 67(-0.975,8.125) 68(-1.625,8.125) 69(-2.275,8.125) 70(-2.925,8.125) 71(-3.575,8.125) 72(-4.225,8.125) 73(-4.875,8.125) 74(-5.525,8.125) 75(-6.175,8.125) 76(-6.825,8.125) 77(-7.475,8.125) 78(-8.125,8.125) 79(-8.775,8.125) 80(-9.425,8.125)
  rect 1.4x0.4 smd: 31(11.125,-6.175) 32(11.125,-5.525) 33(11.125,-4.875) 34(11.125,-4.225) 35(11.125,-3.575) 36(11.125,-2.925) 37(11.125,-2.275) 38(11.125,-1.625) 39(11.125,-0.975) 40(11.125,-0.325) 41(11.125,0.325) 42(11.125,0.975) 43(11.125,1.625) 44(11.125,2.275) 45(11.125,2.925) 46(11.125,3.575) 47(11.125,4.225) 48(11.125,4.875) 49(11.125,5.525) 50(11.125,6.175) 81(-11.125,6.175) 82(-11.125,5.525) 83(-11.125,4.875) 84(-11.125,4.225) 85(-11.125,3.575) 86(-11.125,2.925) 87(-11.125,2.275) 88(-11.125,1.625) 89(-11.125,0.975) 90(-11.125,0.325) 91(-11.125,-0.325) 92(-11.125,-0.975) 93(-11.125,-1.625) 94(-11.125,-2.275) 95(-11.125,-2.925) 96(-11.125,-3.575) 97(-11.125,-4.225) 98(-11.125,-4.875) 99(-11.125,-5.525) 100(-11.125,-6.175)
Top Overlay:
  lines w0.203: -9.625,-6.625 9.625,-6.625 9.625,6.625 -9.625,6.625 -9.625,-6.625
Mechanical 16:
  rectangle: -9.575,-8.275 -9.275,-6.675
  rectangle: -8.925,-8.275 -8.625,-6.675
  rectangle: -8.275,-8.275 -7.975,-6.675
  rectangle: -7.625,-8.275 -7.325,-6.675
  rectangle: -6.975,-8.275 -6.675,-6.675
  rectangle: -6.325,-8.275 -6.025,-6.675
  rectangle: -5.675,-8.275 -5.375,-6.675
  rectangle: -5.025,-8.275 -4.725,-6.675
  rectangle: -4.375,-8.275 -4.075,-6.675
  rectangle: -3.725,-8.275 -3.425,-6.675
  rectangle: -3.075,-8.275 -2.775,-6.675
  rectangle: -2.425,-8.275 -2.125,-6.675
  rectangle: -1.775,-8.275 -1.475,-6.675
  rectangle: -1.125,-8.275 -0.825,-6.675
  rectangle: -0.475,-8.275 -0.175,-6.675
  rectangle: 0.175,-8.275 0.475,-6.675
  rectangle: 0.825,-8.275 1.125,-6.675
  rectangle: 1.475,-8.275 1.775,-6.675
  rectangle: 2.125,-8.275 2.425,-6.675
  rectangle: 2.775,-8.275 3.075,-6.675
  rectangle: 3.425,-8.275 3.725,-6.675
  rectangle: 4.075,-8.275 4.375,-6.675
  rectangle: 4.725,-8.275 5.025,-6.675
  rectangle: 5.375,-8.275 5.675,-6.675
  rectangle: 6.025,-8.275 6.325,-6.675
  rectangle: 6.675,-8.275 6.975,-6.675
  rectangle: 7.325,-8.275 7.625,-6.675
  rectangle: 7.975,-8.275 8.275,-6.675
  rectangle: 8.625,-8.275 8.925,-6.675
  rectangle: 9.275,-8.275 9.575,-6.675
  rectangle: 9.725,-6.325 11.325,-6.025
  rectangle: 9.725,-5.675 11.325,-5.375
  rectangle: 9.725,-5.025 11.325,-4.725
  rectangle: 9.725,-4.375 11.325,-4.075
  rectangle: 9.725,-3.725 11.325,-3.425
  rectangle: 9.725,-3.075 11.325,-2.775
  rectangle: 9.725,-2.425 11.325,-2.125
  rectangle: 9.725,-1.775 11.325,-1.475
  rectangle: 9.725,-1.125 11.325,-0.825
  rectangle: 9.725,-0.475 11.325,-0.175
  rectangle: 9.725,0.175 11.325,0.475
  rectangle: 9.725,0.825 11.325,1.125
  rectangle: 9.725,1.475 11.325,1.775
  rectangle: 9.725,2.125 11.325,2.425
  rectangle: 9.725,2.775 11.325,3.075
  rectangle: 9.725,3.425 11.325,3.725
  rectangle: 9.725,4.075 11.325,4.375
  rectangle: 9.725,4.725 11.325,5.025
  rectangle: 9.725,5.375 11.325,5.675
  rectangle: 9.725,6.025 11.325,6.325
  rectangle: 9.275,6.675 9.575,8.275
  rectangle: 8.625,6.675 8.925,8.275
  rectangle: 7.975,6.675 8.275,8.275
  rectangle: 7.325,6.675 7.625,8.275
  rectangle: 6.675,6.675 6.975,8.275
  rectangle: 6.025,6.675 6.325,8.275
  rectangle: 5.375,6.675 5.675,8.275
  rectangle: 4.725,6.675 5.025,8.275
  rectangle: 4.075,6.675 4.375,8.275
  rectangle: 3.425,6.675 3.725,8.275
  rectangle: 2.775,6.675 3.075,8.275
  rectangle: 2.125,6.675 2.425,8.275
  rectangle: 1.475,6.675 1.775,8.275
  rectangle: 0.825,6.675 1.125,8.275
  rectangle: 0.175,6.675 0.475,8.275
  rectangle: -0.475,6.675 -0.175,8.275
  rectangle: -1.125,6.675 -0.825,8.275
  rectangle: -1.775,6.675 -1.475,8.275
  rectangle: -2.425,6.675 -2.125,8.275
  rectangle: -3.075,6.675 -2.775,8.275
  rectangle: -3.725,6.675 -3.425,8.275
  rectangle: -4.375,6.675 -4.075,8.275
  rectangle: -5.025,6.675 -4.725,8.275
  rectangle: -5.675,6.675 -5.375,8.275
  rectangle: -6.325,6.675 -6.025,8.275
  rectangle: -6.975,6.675 -6.675,8.275
  rectangle: -7.625,6.675 -7.325,8.275
  rectangle: -8.275,6.675 -7.975,8.275
  rectangle: -8.925,6.675 -8.625,8.275
  rectangle: -9.575,6.675 -9.275,8.275
  rectangle: -11.325,6.025 -9.725,6.325
  rectangle: -11.325,5.375 -9.725,5.675
  rectangle: -11.325,4.725 -9.725,5.025
  rectangle: -11.325,4.075 -9.725,4.375
  rectangle: -11.325,3.425 -9.725,3.725
  rectangle: -11.325,2.775 -9.725,3.075
  rectangle: -11.325,2.125 -9.725,2.425
  rectangle: -11.325,1.475 -9.725,1.775
  rectangle: -11.325,0.825 -9.725,1.125
  rectangle: -11.325,0.175 -9.725,0.475
  rectangle: -11.325,-0.475 -9.725,-0.175
  rectangle: -11.325,-1.125 -9.725,-0.825
  rectangle: -11.325,-1.775 -9.725,-1.475
  rectangle: -11.325,-2.425 -9.725,-2.125
  rectangle: -11.325,-3.075 -9.725,-2.775
  rectangle: -11.325,-3.725 -9.725,-3.425
  rectangle: -11.325,-4.375 -9.725,-4.075
  rectangle: -11.325,-5.025 -9.725,-4.725
  rectangle: -11.325,-5.675 -9.725,-5.375
  rectangle: -11.325,-6.325 -9.725,-6.025

## QFP100R [mm]
pads (100):
  rect 0.4x1.8 smd: 1(-9.425,-8.1) 2(-8.775,-8.1) 3(-8.125,-8.1) 4(-7.475,-8.1) 5(-6.825,-8.1) 6(-6.175,-8.1) 7(-5.525,-8.1) 8(-4.875,-8.1) 9(-4.225,-8.1) 10(-3.575,-8.1) 11(-2.925,-8.1) 12(-2.275,-8.1) 13(-1.625,-8.1) 14(-0.975,-8.1) 15(-0.325,-8.1) 16(0.325,-8.1) 17(0.975,-8.1) 18(1.625,-8.1) 19(2.275,-8.1) 20(2.925,-8.1) 21(3.575,-8.1) 22(4.225,-8.1) 23(4.875,-8.1) 24(5.525,-8.1) 25(6.175,-8.1) 26(6.825,-8.1) 27(7.475,-8.1) 28(8.125,-8.1) 29(8.775,-8.1) 30(9.425,-8.1) 51(9.425,8.1) 52(8.775,8.1) 53(8.125,8.1) 54(7.475,8.1) 55(6.825,8.1) 56(6.175,8.1) 57(5.525,8.1) 58(4.875,8.1) 59(4.225,8.1) 60(3.575,8.1) 61(2.925,8.1) 62(2.275,8.1) 63(1.625,8.1) 64(0.975,8.1) 65(0.325,8.1) 66(-0.325,8.1) 67(-0.975,8.1) 68(-1.625,8.1) 69(-2.275,8.1) 70(-2.925,8.1) 71(-3.575,8.1) 72(-4.225,8.1) 73(-4.875,8.1) 74(-5.525,8.1) 75(-6.175,8.1) 76(-6.825,8.1) 77(-7.475,8.1) 78(-8.125,8.1) 79(-8.775,8.1) 80(-9.425,8.1)
  rect 1.8x0.4 smd: 31(11.1,-6.175) 32(11.1,-5.525) 33(11.1,-4.875) 34(11.1,-4.225) 35(11.1,-3.575) 36(11.1,-2.925) 37(11.1,-2.275) 38(11.1,-1.625) 39(11.1,-0.975) 40(11.1,-0.325) 41(11.1,0.325) 42(11.1,0.975) 43(11.1,1.625) 44(11.1,2.275) 45(11.1,2.925) 46(11.1,3.575) 47(11.1,4.225) 48(11.1,4.875) 49(11.1,5.525) 50(11.1,6.175) 81(-11.1,6.175) 82(-11.1,5.525) 83(-11.1,4.875) 84(-11.1,4.225) 85(-11.1,3.575) 86(-11.1,2.925) 87(-11.1,2.275) 88(-11.1,1.625) 89(-11.1,0.975) 90(-11.1,0.325) 91(-11.1,-0.325) 92(-11.1,-0.975) 93(-11.1,-1.625) 94(-11.1,-2.275) 95(-11.1,-2.925) 96(-11.1,-3.575) 97(-11.1,-4.225) 98(-11.1,-4.875) 99(-11.1,-5.525) 100(-11.1,-6.175)
Top Overlay:
  circle w0.254: c-8.65,-5.5 r0.75
  lines w0.203: -9.57,-6.56 9.56,-6.56 9.56,6.56 -9.57,6.56 -9.57,-6.56
Mechanical 16:
  rectangle: -9.615,-8.72 -9.235,-6.95
  rectangle: 9.95,-6.365 11.72,-5.985
  rectangle: -8.965,-8.72 -8.585,-6.95
  rectangle: -8.315,-8.72 -7.935,-6.95
  rectangle: -7.665,-8.72 -7.285,-6.95
  rectangle: -7.015,-8.72 -6.635,-6.95
  rectangle: -6.365,-8.72 -5.985,-6.95
  rectangle: -5.715,-8.72 -5.335,-6.95
  rectangle: -5.065,-8.72 -4.685,-6.95
  rectangle: -4.415,-8.72 -4.035,-6.95
  rectangle: -3.765,-8.72 -3.385,-6.95
  rectangle: -3.115,-8.72 -2.735,-6.95
  rectangle: -2.465,-8.72 -2.085,-6.95
  rectangle: -1.815,-8.72 -1.435,-6.95
  rectangle: -1.165,-8.72 -0.785,-6.95
  rectangle: -0.515,-8.72 -0.135,-6.95
  rectangle: 0.135,-8.72 0.515,-6.95
  rectangle: 0.785,-8.72 1.165,-6.95
  rectangle: 1.435,-8.72 1.815,-6.95
  rectangle: 2.085,-8.72 2.465,-6.95
  rectangle: 2.735,-8.72 3.115,-6.95
  rectangle: 3.385,-8.72 3.765,-6.95
  rectangle: 4.035,-8.72 4.415,-6.95
  rectangle: 4.685,-8.72 5.065,-6.95
  rectangle: 5.335,-8.72 5.715,-6.95
  rectangle: 5.985,-8.72 6.365,-6.95
  rectangle: 6.635,-8.72 7.015,-6.95
  rectangle: 7.285,-8.72 7.665,-6.95
  rectangle: 7.935,-8.72 8.315,-6.95
  rectangle: 8.585,-8.72 8.965,-6.95
  rectangle: 9.235,-8.72 9.615,-6.95
  rectangle: 9.95,-5.715 11.72,-5.335
  rectangle: 9.95,-5.065 11.72,-4.685
  rectangle: 9.95,-4.415 11.72,-4.035
  rectangle: 9.95,-3.765 11.72,-3.385
  rectangle: 9.95,-3.115 11.72,-2.735
  rectangle: 9.95,-2.465 11.72,-2.085
  rectangle: 9.95,-1.815 11.72,-1.435
  rectangle: 9.95,-1.165 11.72,-0.785
  rectangle: 9.95,-0.515 11.72,-0.135
  rectangle: 9.95,0.135 11.72,0.515
  rectangle: 9.95,0.785 11.72,1.165
  rectangle: 9.95,1.435 11.72,1.815
  rectangle: 9.95,2.085 11.72,2.465
  rectangle: 9.95,2.735 11.72,3.115
  rectangle: 9.95,3.385 11.72,3.765
  rectangle: 9.95,4.035 11.72,4.415
  rectangle: 9.95,4.685 11.72,5.065
  rectangle: 9.95,5.335 11.72,5.715
  rectangle: 9.95,5.985 11.72,6.365
  rectangle: 9.235,6.95 9.615,8.72
  rectangle: 8.585,6.95 8.965,8.72
  rectangle: 7.935,6.95 8.315,8.72
  rectangle: 7.285,6.95 7.665,8.72
  rectangle: 6.635,6.95 7.015,8.72
  rectangle: 5.985,6.95 6.365,8.72
  rectangle: 5.335,6.95 5.715,8.72
  rectangle: 4.685,6.95 5.065,8.72
  rectangle: 4.035,6.95 4.415,8.72
  rectangle: 3.385,6.95 3.765,8.72
  rectangle: 2.735,6.95 3.115,8.72
  rectangle: 2.085,6.95 2.465,8.72
  rectangle: 1.435,6.95 1.815,8.72
  rectangle: 0.785,6.95 1.165,8.72
  rectangle: 0.135,6.95 0.515,8.72
  rectangle: -0.515,6.95 -0.135,8.72
  rectangle: -1.165,6.95 -0.785,8.72
  rectangle: -1.815,6.95 -1.435,8.72
  rectangle: -2.465,6.95 -2.085,8.72
  rectangle: -3.115,6.95 -2.735,8.72
  rectangle: -3.765,6.95 -3.385,8.72
  rectangle: -4.415,6.95 -4.035,8.72
  rectangle: -5.065,6.95 -4.685,8.72
  rectangle: -5.715,6.95 -5.335,8.72
  rectangle: -6.365,6.95 -5.985,8.72
  rectangle: -7.015,6.95 -6.635,8.72
  rectangle: -7.665,6.95 -7.285,8.72
  rectangle: -8.315,6.95 -7.935,8.72
  rectangle: -8.965,6.95 -8.585,8.72
  rectangle: -9.615,6.95 -9.235,8.72
  rectangle: -11.72,5.985 -9.95,6.365
  rectangle: -11.72,5.335 -9.95,5.715
  rectangle: -11.72,4.685 -9.95,5.065
  rectangle: -11.72,4.035 -9.95,4.415
  rectangle: -11.72,3.385 -9.95,3.765
  rectangle: -11.72,2.735 -9.95,3.115
  rectangle: -11.72,2.085 -9.95,2.465
  rectangle: -11.72,1.435 -9.95,1.815
  rectangle: -11.72,0.785 -9.95,1.165
  rectangle: -11.72,0.135 -9.95,0.515
  rectangle: -11.72,-0.515 -9.95,-0.135
  rectangle: -11.72,-1.165 -9.95,-0.785
  rectangle: -11.72,-1.815 -9.95,-1.435
  rectangle: -11.72,-2.465 -9.95,-2.085
  rectangle: -11.72,-3.115 -9.95,-2.735
  rectangle: -11.72,-3.765 -9.95,-3.385
  rectangle: -11.72,-4.415 -9.95,-4.035
  rectangle: -11.72,-5.065 -9.95,-4.685
  rectangle: -11.72,-5.715 -9.95,-5.335
  rectangle: -11.72,-6.365 -9.95,-5.985
  lines w0.203: -9.9,-6.9 9.9,-6.9 9.9,6.9 -9.9,6.9 -9.9,-6.9

## QFP120_SOT349-2 [mm]
pads (120):
  rect 0.6x1.5 smd: 1(-11.6,-16.2) 30(11.6,-16.2) 61(11.6,16.2) 90(-11.6,16.2)
  rect 0.5x1.5 smd: 2(-10.8,-16.2) 3(-10,-16.2) 4(-9.2,-16.2) 5(-8.4,-16.2) 6(-7.6,-16.2) 7(-6.8,-16.2) 8(-6,-16.2) 9(-5.2,-16.2) 10(-4.4,-16.2) 11(-3.6,-16.2) 12(-2.8,-16.2) 13(-2,-16.2) 14(-1.2,-16.2) 15(-0.4,-16.2) 16(0.4,-16.2) 17(1.2,-16.2) 18(2,-16.2) 19(2.8,-16.2) 20(3.6,-16.2) 21(4.4,-16.2) 22(5.2,-16.2) 23(6,-16.2) 24(6.8,-16.2) 25(7.6,-16.2) 26(8.4,-16.2) 27(9.2,-16.2) 28(10,-16.2) 29(10.8,-16.2) 62(10.8,16.2) 63(10,16.2) 64(9.2,16.2) 65(8.4,16.2) 66(7.6,16.2) 67(6.8,16.2) 68(6,16.2) 69(5.2,16.2) 70(4.4,16.2) 71(3.6,16.2) 72(2.8,16.2) 73(2,16.2) 74(1.2,16.2) 75(0.4,16.2) 76(-0.4,16.2) 77(-1.2,16.2) 78(-2,16.2) 79(-2.8,16.2) 80(-3.6,16.2) 81(-4.4,16.2) 82(-5.2,16.2) 83(-6,16.2) 84(-6.8,16.2) 85(-7.6,16.2) 86(-8.4,16.2) 87(-9.2,16.2) 88(-10,16.2) 89(-10.8,16.2)
  rect 1.5x0.6 smd: 31(16.2,-11.6) 60(16.2,11.6) 91(-16.2,11.6) 120(-16.2,-11.6)
  rect 1.5x0.5 smd: 32(16.2,-10.8) 33(16.2,-10) 34(16.2,-9.2) 35(16.2,-8.4) 36(16.2,-7.6) 37(16.2,-6.8) 38(16.2,-6) 39(16.2,-5.2) 40(16.2,-4.4) 41(16.2,-3.6) 42(16.2,-2.8) 43(16.2,-2) 44(16.2,-1.2) 45(16.2,-0.4) 46(16.2,0.4) 47(16.2,1.2) 48(16.2,2) 49(16.2,2.8) 50(16.2,3.6) 51(16.2,4.4) 52(16.2,5.2) 53(16.2,6) 54(16.2,6.8) 55(16.2,7.6) 56(16.2,8.4) 57(16.2,9.2) 58(16.2,10) 59(16.2,10.8) 92(-16.2,10.8) 93(-16.2,10) 94(-16.2,9.2) 95(-16.2,8.4) 96(-16.2,7.6) 97(-16.2,6.8) 98(-16.2,6) 99(-16.2,5.2) 100(-16.2,4.4) 101(-16.2,3.6) 102(-16.2,2.8) 103(-16.2,2) 104(-16.2,1.2) 105(-16.2,0.4) 106(-16.2,-0.4) 107(-16.2,-1.2) 108(-16.2,-2) 109(-16.2,-2.8) 110(-16.2,-3.6) 111(-16.2,-4.4) 112(-16.2,-5.2) 113(-16.2,-6) 114(-16.2,-6.8) 115(-16.2,-7.6) 116(-16.2,-8.4) 117(-16.2,-9.2) 118(-16.2,-10) 119(-16.2,-10.8)
Top Overlay:
  circle w0.203: c-11.8,-11.8 r0.6
  lines w0.203: -14.1,-14.1 14.1,-14.1 14.1,14.1 -14.1,14.1 -14.1,-14.1
Mechanical 16:
  rectangle: -11.8,-16.55 -11.4,-14.2
  rectangle: -11,-16.55 -10.6,-14.2
  rectangle: -10.2,-16.55 -9.8,-14.2
  rectangle: -9.4,-16.55 -9,-14.2
  rectangle: -8.6,-16.55 -8.2,-14.2
  rectangle: -7.8,-16.55 -7.4,-14.2
  rectangle: -7,-16.55 -6.6,-14.2
  rectangle: -6.2,-16.55 -5.8,-14.2
  rectangle: -5.4,-16.55 -5,-14.2
  rectangle: -4.6,-16.55 -4.2,-14.2
  rectangle: -3.8,-16.55 -3.4,-14.2
  rectangle: -3,-16.55 -2.6,-14.2
  rectangle: -2.2,-16.55 -1.8,-14.2
  rectangle: -1.4,-16.55 -1,-14.2
  rectangle: -0.6,-16.55 -0.2,-14.2
  rectangle: 0.2,-16.55 0.6,-14.2
  rectangle: 1,-16.55 1.4,-14.2
  rectangle: 1.8,-16.55 2.2,-14.2
  rectangle: 2.6,-16.55 3,-14.2
  rectangle: 3.4,-16.55 3.8,-14.2
  rectangle: 4.2,-16.55 4.6,-14.2
  rectangle: 5,-16.55 5.4,-14.2
  rectangle: 5.8,-16.55 6.2,-14.2
  rectangle: 6.6,-16.55 7,-14.2
  rectangle: 7.4,-16.55 7.8,-14.2
  rectangle: 8.2,-16.55 8.6,-14.2
  rectangle: 9,-16.55 9.4,-14.2
  rectangle: 9.8,-16.55 10.2,-14.2
  rectangle: 10.6,-16.55 11,-14.2
  rectangle: 11.4,-16.55 11.8,-14.2
  rectangle: 14.2,-11.8 16.55,-11.4
  rectangle: 14.2,-11 16.55,-10.6
  rectangle: 14.2,-10.2 16.55,-9.8
  rectangle: 14.2,-9.4 16.55,-9
  rectangle: 14.2,-8.6 16.55,-8.2
  rectangle: 14.2,-7.8 16.55,-7.4
  rectangle: 14.2,-7 16.55,-6.6
  rectangle: 14.2,-6.2 16.55,-5.8
  rectangle: 14.2,-5.4 16.55,-5
  rectangle: 14.2,-4.6 16.55,-4.2
  rectangle: 14.2,-3.8 16.55,-3.4
  rectangle: 14.2,-3 16.55,-2.6
  rectangle: 14.2,-2.2 16.55,-1.8
  rectangle: 14.2,-1.4 16.55,-1
  rectangle: 14.2,-0.6 16.55,-0.2
  rectangle: 14.2,0.2 16.55,0.6
  rectangle: 14.2,1 16.55,1.4
  rectangle: 14.2,1.8 16.55,2.2
  rectangle: 14.2,2.6 16.55,3
  rectangle: 14.2,3.4 16.55,3.8
  rectangle: 14.2,4.2 16.55,4.6
  rectangle: 14.2,5 16.55,5.4
  rectangle: 14.2,5.8 16.55,6.2
  rectangle: 14.2,6.6 16.55,7
  rectangle: 14.2,7.4 16.55,7.8
  rectangle: 14.2,8.2 16.55,8.6
  rectangle: 14.2,9 16.55,9.4
  rectangle: 14.2,9.8 16.55,10.2
  rectangle: 14.2,10.6 16.55,11
  rectangle: 14.2,11.4 16.55,11.8
  rectangle: 11.4,14.2 11.8,16.55
  rectangle: 10.6,14.2 11,16.55
  rectangle: 9.8,14.2 10.2,16.55
  rectangle: 9,14.2 9.4,16.55
  rectangle: 8.2,14.2 8.6,16.55
  rectangle: 7.4,14.2 7.8,16.55
  rectangle: 6.6,14.2 7,16.55
  rectangle: 5.8,14.2 6.2,16.55
  rectangle: 5,14.2 5.4,16.55
  rectangle: 4.2,14.2 4.6,16.55
  rectangle: 3.4,14.2 3.8,16.55
  rectangle: 2.6,14.2 3,16.55
  rectangle: 1.8,14.2 2.2,16.55
  rectangle: 1,14.2 1.4,16.55
  rectangle: 0.2,14.2 0.6,16.55
  rectangle: -0.6,14.2 -0.2,16.55
  rectangle: -1.4,14.2 -1,16.55
  rectangle: -2.2,14.2 -1.8,16.55
  rectangle: -3,14.2 -2.6,16.55
  rectangle: -3.8,14.2 -3.4,16.55
  rectangle: -4.6,14.2 -4.2,16.55
  rectangle: -5.4,14.2 -5,16.55
  rectangle: -6.2,14.2 -5.8,16.55
  rectangle: -7,14.2 -6.6,16.55
  rectangle: -7.8,14.2 -7.4,16.55
  rectangle: -8.6,14.2 -8.2,16.55
  rectangle: -9.4,14.2 -9,16.55
  rectangle: -10.2,14.2 -9.8,16.55
  rectangle: -11,14.2 -10.6,16.55
  rectangle: -11.8,14.2 -11.4,16.55
  rectangle: -16.55,11.4 -14.2,11.8
  rectangle: -16.55,10.6 -14.2,11
  rectangle: -16.55,9.8 -14.2,10.2
  rectangle: -16.55,9 -14.2,9.4
  rectangle: -16.55,8.2 -14.2,8.6
  rectangle: -16.55,7.4 -14.2,7.8
  rectangle: -16.55,6.6 -14.2,7
  rectangle: -16.55,5.8 -14.2,6.2
  rectangle: -16.55,5 -14.2,5.4
  rectangle: -16.55,4.2 -14.2,4.6
  rectangle: -16.55,3.4 -14.2,3.8
  rectangle: -16.55,2.6 -14.2,3
  rectangle: -16.55,1.8 -14.2,2.2
  rectangle: -16.55,1 -14.2,1.4
  rectangle: -16.55,0.2 -14.2,0.6
  rectangle: -16.55,-0.6 -14.2,-0.2
  rectangle: -16.55,-1.4 -14.2,-1
  rectangle: -16.55,-2.2 -14.2,-1.8
  rectangle: -16.55,-3 -14.2,-2.6
  rectangle: -16.55,-3.8 -14.2,-3.4
  rectangle: -16.55,-4.6 -14.2,-4.2
  rectangle: -16.55,-5.4 -14.2,-5
  rectangle: -16.55,-6.2 -14.2,-5.8
  rectangle: -16.55,-7 -14.2,-6.6
  rectangle: -16.55,-7.8 -14.2,-7.4
  rectangle: -16.55,-8.6 -14.2,-8.2
  rectangle: -16.55,-9.4 -14.2,-9
  rectangle: -16.55,-10.2 -14.2,-9.8
  rectangle: -16.55,-11 -14.2,-10.6
  rectangle: -16.55,-11.8 -14.2,-11.4